# EAGLE library part TMPZ84C00AM-6 (library Sega GG IC)
Toshiba T84C00AM-6 Sop 40pin package Zilog z80 Clone
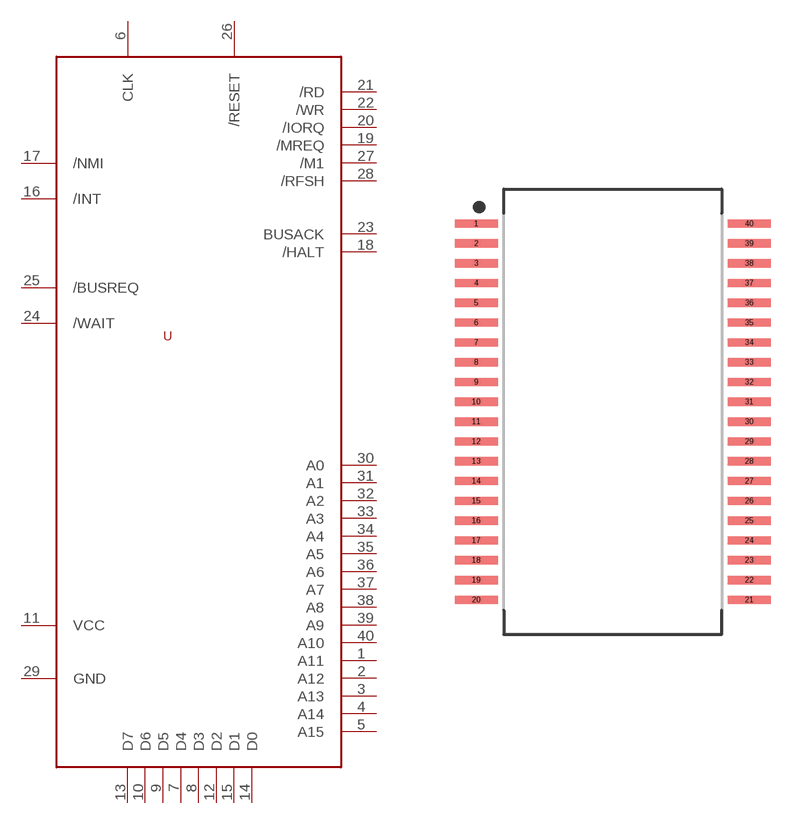
[diagram p3: symbol with the pads of T84C00AM-6; footprint T84C00AM-6]

Designator prefix -

## TMPZ84C00AM-6  [T84C00AM-6]
1  A11
2  A12
3  A13
4  A14
5  A15
6  CLK
7  D4
8  D3
9  D5
10  D6
11  VCC
12  D2
13  D7
14  D0
15  D1
16  /INT
17  /NMI
18  /HALT
19  /MREQ
20  /IORQ
21  /RD
22  /WR
23  BUSACK
24  /WAIT
25  /BUSREQ
26  /RESET
27  /M1
28  /RFSH
29  GND
30  A0
31  A1
32  A2
33  A3
34  A4
35  A5
36  A6
37  A7
38  A8
39  A9
40  A10

## Footprint T84C00AM-6 (pad centres in mm)
40-SOP, 0.80 mm pitch, 11.96 mm span, 17.75 X 8.80 X 2.90 mm body 40-pin SOP package with 0.80 mm pitch, 11.96 mm span with body size 17.75 X 8.80 X 2.90 mm
smd 1.732 x 0.334: 1 -5.515,7.6; 2 -5.515,6.8; 3 -5.515,6; 4 -5.515,5.2; 5 -5.515,4.4; 6 -5.515,3.6; 7 -5.515,2.8; 8 -5.515,2; 9 -5.515,1.2; 10 -5.515,0.4; 11 -5.515,-0.4; 12 -5.515,-1.2; 13 -5.515,-2; 14 -5.515,-2.8; 15 -5.515,-3.6; 16 -5.515,-4.4; 17 -5.515,-5.2; 18 -5.515,-6; 19 -5.515,-6.8; 20 -5.515,-7.6; 21 5.515,-7.6; 22 5.515,-6.8; 23 5.515,-6; 24 5.515,-5.2; 25 5.515,-4.4; 26 5.515,-3.6; 27 5.515,-2.8; 28 5.515,-2; 29 5.515,-1.2; 30 5.515,-0.4; 31 5.515,0.4; 32 5.515,1.2; 33 5.515,2; 34 5.515,2.8; 35 5.515,3.6; 36 5.515,4.4; 37 5.515,5.2; 38 5.515,6; 39 5.515,6.8; 40 5.515,7.6